# EAGLE library part CONN:2X5-BLASTER (library QuantumOptics)
Connector, 2x5 for xBlaster, on 0.1" grid, for Altera FPGA programmer/JTAG connectors. Can use Omron XG4C-1031.
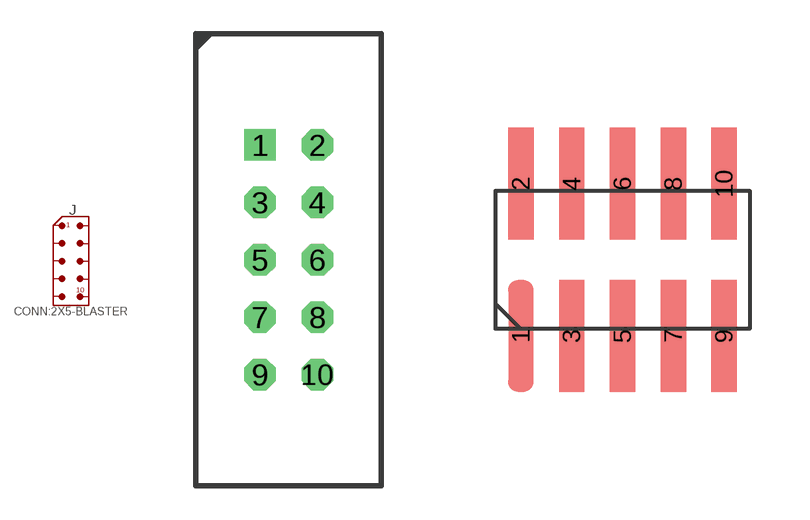
[diagram p40: symbol with the pads of CONN:2X5-BLASTER; footprints CONN:2X5-BLASTER, CONN,2X5,0.050",SMT]

Designator prefix J

## CONN:2X5-BLASTER-THROUGH  [CONN:2X5-BLASTER]
1  1
2  2
3  3
4  4
5  5
6  6
7  7
8  8
9  9
10  10

## CONN:2X5-BLASTER-SMT  [CONN,2X5,0.050",SMT]
Pads as for CONN:2X5-BLASTER

## CONN:2X5-BLASTER-UNSHROUDED  [CONN,2X5,BLASTER,UNSHROUDED]
Pads as for CONN:2X5-BLASTER

## Footprint CONN:2X5-BLASTER (pad centres in mm)
Connector, 2x5 for xBlaster, on 0.1" grid, for Altera FPGA programmer/JTAG connectors. Can use Omron XG4C-1031.
drill 0.889 square: 1 -1.27,5.08
drill 0.889 octagon: 2 1.27,5.08; 3 -1.27,2.54; 4 1.27,2.54; 5 -1.27,0; 6 1.27,0; 7 -1.27,-2.54; 8 1.27,-2.54; 9 -1.27,-5.08; 10 1.27,-5.08

## Footprint CONN,2X5,0.050",SMT (pad centres in mm)
Connector, header, 2x5 on 0.050" grid, SMT such as Samtec FTSH-105-01-?, not including guide post for mating connector. This is a test second line to see where it is visible.
smd 0.635 x 2.794: 1 0,-1.905; 2 0,1.905; 3 1.27,-1.905; 4 1.27,1.905; 5 2.54,-1.905; 6 2.54,1.905; 7 3.81,-1.905; 8 3.81,1.905; 9 5.08,-1.905; 10 5.08,1.905

## Footprint CONN,2X5,BLASTER,UNSHROUDED (pad centres in mm)
Connector, 2x5 for xBlaster, unshrouded, on 0.1" grid, for Altera FPGA programmer/JTAG connectors.
drill 0.889 square: 1 -1.27,5.08
drill 0.889 octagon: 2 1.27,5.08; 3 -1.27,2.54; 4 1.27,2.54; 5 -1.27,0; 6 1.27,0; 7 -1.27,-2.54; 8 1.27,-2.54; 9 -1.27,-5.08; 10 1.27,-5.08